# Altium footprint library JT3.PcbLib: 1 footprints
Each footprint in its own frame and in the unit in brackets; x right, y up, seen from the top. Pads: shape width x height; smd on the part's side, far side on the other; paste and mask are expansions set on the pad; w line width, h text height; cw(c..) or ccw(c..) is an arc to the next point about the centre after c.
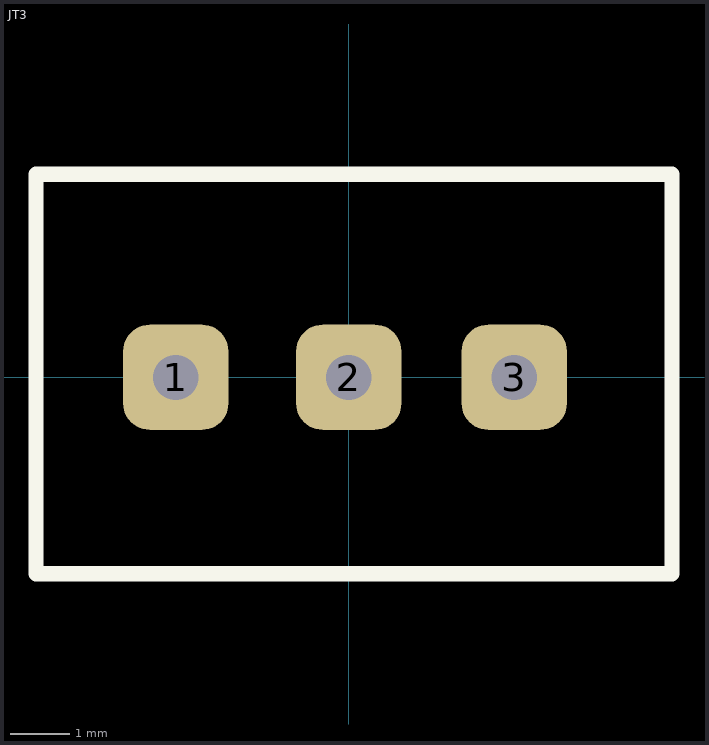
[diagram p0: the footprint, top view; thin cyan lines are the x and y axes]

## JT3 [mil]
pads (3):
  rrect50% 70x70 hole 30: 1(-115,0) 2(0,0) 3(110,0)
Top Overlay:
  lines w10: -208.07,-130.59 215,-130.59 215,135 -208.07,135 -208.07,-130.59